# Altium schematic symbol library smd_R9_34K.SchLib: 1 symbol
Pins are listed as number, name and electrical type; pins without a type are passive.

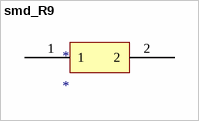
[diagram p0: symbol smd_R9]

## smd_R9
designator *
footprint smd_R9
pins: 1, 2